# Altium integrated library USB4145-03-0070-C_REVA2.IntLib: 1 symbol
Pins are listed as number, name and electrical type; pins without a type are passive.

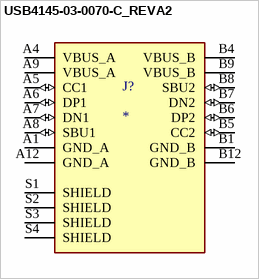
[diagram p0: symbol USB4145-03-0070-C_REVA2]

## USB4145-03-0070-C_REVA2
designator J?
Type C USB 2.0 Connector; MP: USB4145-03-0070-C; MF: Global Connector Technology; Availability: In Stock; Value: *; Check_prices: https://www.snapeda.com/parts/USB4145-03-0070-C/Global+Connector+Technology/view-part/?ref=eda; Package: None; Price: None; SnapEDA_Link: https://www.snapeda.com/parts/USB4145-03-0070-C/Global+Connector+Technology/view-part/?ref=snap; Purchase-URL: https://pricing.snapeda.com/search/part/USB4145-03-0070-C/?ref=eda
footprint GCT_USB4145-03-0070-C_REVA2
pins: A1 GND_A (power), A4 VBUS_A (power), A5 CC1 (io), A6 DP1 (io), A7 DN1 (io), A8 SBU1 (io), A9 VBUS_A (power), A12 GND_A (power), B1 GND_B (power), B4 VBUS_B (power), B5 CC2 (io), B6 DP2 (io), B7 DN2 (io), B8 SBU2 (io), B9 VBUS_B (power), B12 GND_B (power), S1 SHIELD, S2 SHIELD, S3 SHIELD, S4 SHIELD